# Altium footprint library PcbLibJosh.PcbLib: 1 footprints
Each footprint in its own frame and in the unit in brackets; x right, y up, seen from the top. Pads: shape width x height; smd on the part's side, far side on the other; paste and mask are expansions set on the pad; w line width, h text height; cw(c..) or ccw(c..) is an arc to the next point about the centre after c.
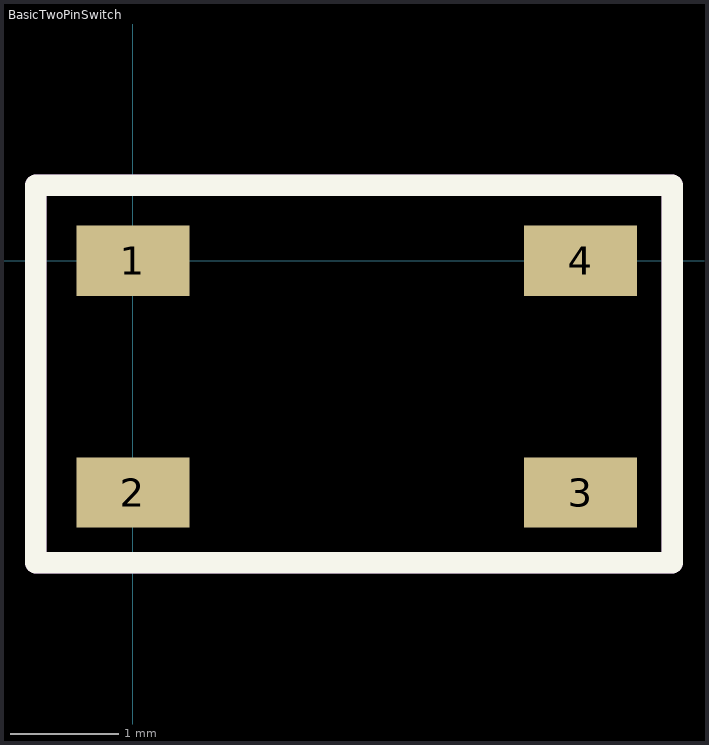
[diagram p0: the footprint, top view; thin cyan lines are the x and y axes]

## BasicTwoPinSwitch [mm]
pads (4):
  rect 1.05x0.65 smd: 1(0,0) 2(0,-2.15) 3(4.15,-2.15) 4(4.15,0)
Top Overlay:
  lines w0.2: -0.9,-2.8 -0.9,0.7 5,0.7 5,-2.8 -0.9,-2.8
Mechanical 29:
  lines w0.2: -0.9,-2.8 5,-2.8 5,0.7 -0.9,0.7 -0.9,-2.8
  text "'.Designator'" at -0.4,-1.1 h0.7
3D body "PTS810 SJK 250 SMTR LFS--3DModel-STEP-1.STEP": height 2.71, standoff 0.01, extent -0.25,-2.65 4.35,0.55